# EAGLE library part HMC492 (library microwave)
DIVIDE-BY-2 - 18 GHz Source: hmc492lp3.pdf
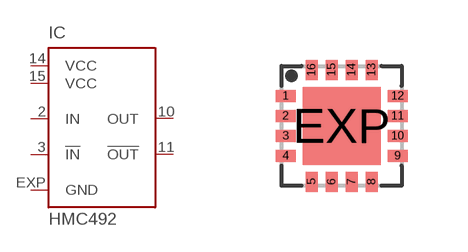
[diagram p2: symbol with the pads of QFN16; footprint QFN16]

Designator prefix IC

## HMC492  [QFN16]
2  IN  in
3  !IN  in
10  OUT  out
11  !OUT  out
14  VCC  pwr
15  VCC  pwr
EXP  GND  pwr

## Footprint QFN16 (pad centres in mm)
QFN 16 3x3 mm Source: www.hittite.com .. hmc492lp3.pdf
smd 0.5 x 0.3: 1 -1.4,0.75; 2 -1.4,0.25; 3 -1.4,-0.25; 4 -1.4,-0.75; 9 1.4,-0.75; 10 1.4,-0.25; 11 1.4,0.25; 12 1.4,0.75
smd 0.3 x 0.5: 5 -0.75,-1.4; 6 -0.25,-1.4; 7 0.25,-1.4; 8 0.75,-1.4; 13 0.75,1.4; 14 0.25,1.4; 15 -0.25,1.4; 16 -0.75,1.4
smd 1.95 x 1.95: EXP 0,0